# Altium schematic symbol library DSP_AnalogDevices.SchLib: 5 symbols
Pins are listed as number, name and electrical type; pins without a type are passive.

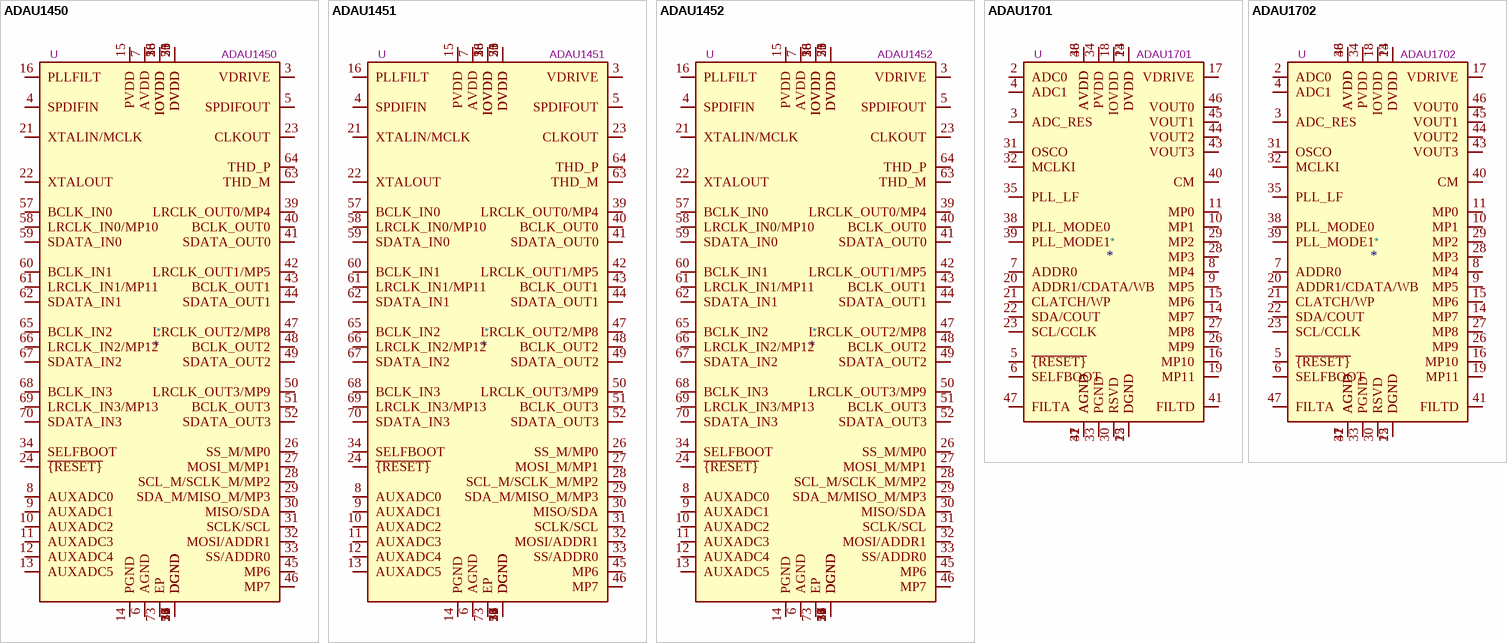
[diagram p0: symbols ADAU1450 to ADAU1702]

## ADAU1450
designator *  value ADAU1450  Reference: U
SigmaDSP SigmaDSP Digital Audio Processor, 147.456 MHz, 8kword Data RAM, I2C/SPI, LFCSP-72; ki_keywords: sigmadsp audio; ki_fp_filters: LFCSP*1EP*10x10mm*P0.5mm*; Footprint: Package_CSP:LFCSP-72-1EP_10x10mm_P0.5mm_EP5.3x5.3mm; Datasheet: https://www.analog.com/media/en/technical-documentation/data-sheets/ADAU1452_1451_1450.pdf; Description_: SigmaDSP SigmaDSP Digital Audio Processor, 147.456 MHz, 8kword Data RAM, I2C/SPI, LFCSP-72
pins: 1 DGND, 2 IOVDD, 3 VDRIVE, 4 SPDIFIN, 5 SPDIFOUT, 6 AGND, 7 AVDD, 8 AUXADC0, 9 AUXADC1, 10 AUXADC2, 11 AUXADC3, 12 AUXADC4, 13 AUXADC5, 14 PGND, 15 PVDD, 16 PLLFILT, 17 DGND, 18 IOVDD, 19 DGND, 20 DVDD, 21 XTALIN/MCLK, 22 XTALOUT, 23 CLKOUT, 24 ~{{RESET}}, 25 DGND, 26 SS_M/MP0, 27 MOSI_M/MP1, 28 SCL_M/SCLK_M/MP2, 29 SDA_M/MISO_M/MP3, 30 MISO/SDA, 31 SCLK/SCL, 32 MOSI/ADDR1, 33 SS/ADDR0, 34 SELFBOOT, 35 DVDD, 36 DGND, 37 DGND, 38 IOVDD, 39 LRCLK_OUT0/MP4, 40 BCLK_OUT0, 41 SDATA_OUT0, 42 LRCLK_OUT1/MP5, 43 BCLK_OUT1, 44 SDATA_OUT1, 45 MP6, 46 MP7, 47 LRCLK_OUT2/MP8, 48 BCLK_OUT2, 49 SDATA_OUT2, 50 LRCLK_OUT3/MP9, 51 BCLK_OUT3, 52 SDATA_OUT3, 53 DVDD, 54 DGND, 55 DGND, 56 IOVDD, 57 BCLK_IN0, 58 LRCLK_IN0/MP10, 59 SDATA_IN0, 60 BCLK_IN1, 61 LRCLK_IN1/MP11, 62 SDATA_IN1, 63 THD_M, 64 THD_P, 65 BCLK_IN2, 66 LRCLK_IN2/MP12, 67 SDATA_IN2, 68 BCLK_IN3, 69 LRCLK_IN3/MP13, 70 SDATA_IN3, 71 DVDD, 72 DGND, 73 EP

## ADAU1451
designator *  value ADAU1451  Reference: U
SigmaDSP SigmaDSP Digital Audio Processor, 294.912 MHz, 40kword Data RAM, I2C/SPI, S/PDIF I/O, 16-Channel ASRC, LFCSP-72; ki_keywords: sigmadsp audio; ki_fp_filters: LFCSP*1EP*10x10mm*P0.5mm*; Footprint: Package_CSP:LFCSP-72-1EP_10x10mm_P0.5mm_EP5.3x5.3mm; Datasheet: https://www.analog.com/media/en/technical-documentation/data-sheets/ADAU1452_1451_1450.pdf; Description_: SigmaDSP SigmaDSP Digital Audio Processor, 294.912 MHz, 40kword Data RAM, I2C/SPI, S/PDIF I/O, 16-Channel ASRC, LFCSP-72
pins: 1 DGND, 2 IOVDD, 3 VDRIVE, 4 SPDIFIN, 5 SPDIFOUT, 6 AGND, 7 AVDD, 8 AUXADC0, 9 AUXADC1, 10 AUXADC2, 11 AUXADC3, 12 AUXADC4, 13 AUXADC5, 14 PGND, 15 PVDD, 16 PLLFILT, 17 DGND, 18 IOVDD, 19 DGND, 20 DVDD, 21 XTALIN/MCLK, 22 XTALOUT, 23 CLKOUT, 24 ~{{RESET}}, 25 DGND, 26 SS_M/MP0, 27 MOSI_M/MP1, 28 SCL_M/SCLK_M/MP2, 29 SDA_M/MISO_M/MP3, 30 MISO/SDA, 31 SCLK/SCL, 32 MOSI/ADDR1, 33 SS/ADDR0, 34 SELFBOOT, 35 DVDD, 36 DGND, 37 DGND, 38 IOVDD, 39 LRCLK_OUT0/MP4, 40 BCLK_OUT0, 41 SDATA_OUT0, 42 LRCLK_OUT1/MP5, 43 BCLK_OUT1, 44 SDATA_OUT1, 45 MP6, 46 MP7, 47 LRCLK_OUT2/MP8, 48 BCLK_OUT2, 49 SDATA_OUT2, 50 LRCLK_OUT3/MP9, 51 BCLK_OUT3, 52 SDATA_OUT3, 53 DVDD, 54 DGND, 55 DGND, 56 IOVDD, 57 BCLK_IN0, 58 LRCLK_IN0/MP10, 59 SDATA_IN0, 60 BCLK_IN1, 61 LRCLK_IN1/MP11, 62 SDATA_IN1, 63 THD_M, 64 THD_P, 65 BCLK_IN2, 66 LRCLK_IN2/MP12, 67 SDATA_IN2, 68 BCLK_IN3, 69 LRCLK_IN3/MP13, 70 SDATA_IN3, 71 DVDD, 72 DGND, 73 EP

## ADAU1452
designator *  value ADAU1452  Reference: U
SigmaDSP SigmaDSP Digital Audio Processor, 294.912 MHz, 40kword Data RAM, I2C/SPI, S/PDIF I/O, 16-Channel ASRC, LFCSP-72; ki_keywords: sigmadsp audio; ki_fp_filters: LFCSP*1EP*10x10mm*P0.5mm*; Footprint: Package_CSP:LFCSP-72-1EP_10x10mm_P0.5mm_EP5.3x5.3mm; Datasheet: https://www.analog.com/media/en/technical-documentation/data-sheets/ADAU1452_1451_1450.pdf; Description_: SigmaDSP SigmaDSP Digital Audio Processor, 294.912 MHz, 40kword Data RAM, I2C/SPI, S/PDIF I/O, 16-Channel ASRC, LFCSP-72
pins: 1 DGND, 2 IOVDD, 3 VDRIVE, 4 SPDIFIN, 5 SPDIFOUT, 6 AGND, 7 AVDD, 8 AUXADC0, 9 AUXADC1, 10 AUXADC2, 11 AUXADC3, 12 AUXADC4, 13 AUXADC5, 14 PGND, 15 PVDD, 16 PLLFILT, 17 DGND, 18 IOVDD, 19 DGND, 20 DVDD, 21 XTALIN/MCLK, 22 XTALOUT, 23 CLKOUT, 24 ~{{RESET}}, 25 DGND, 26 SS_M/MP0, 27 MOSI_M/MP1, 28 SCL_M/SCLK_M/MP2, 29 SDA_M/MISO_M/MP3, 30 MISO/SDA, 31 SCLK/SCL, 32 MOSI/ADDR1, 33 SS/ADDR0, 34 SELFBOOT, 35 DVDD, 36 DGND, 37 DGND, 38 IOVDD, 39 LRCLK_OUT0/MP4, 40 BCLK_OUT0, 41 SDATA_OUT0, 42 LRCLK_OUT1/MP5, 43 BCLK_OUT1, 44 SDATA_OUT1, 45 MP6, 46 MP7, 47 LRCLK_OUT2/MP8, 48 BCLK_OUT2, 49 SDATA_OUT2, 50 LRCLK_OUT3/MP9, 51 BCLK_OUT3, 52 SDATA_OUT3, 53 DVDD, 54 DGND, 55 DGND, 56 IOVDD, 57 BCLK_IN0, 58 LRCLK_IN0/MP10, 59 SDATA_IN0, 60 BCLK_IN1, 61 LRCLK_IN1/MP11, 62 SDATA_IN1, 63 THD_M, 64 THD_P, 65 BCLK_IN2, 66 LRCLK_IN2/MP12, 67 SDATA_IN2, 68 BCLK_IN3, 69 LRCLK_IN3/MP13, 70 SDATA_IN3, 71 DVDD, 72 DGND, 73 EP

## ADAU1701
designator *  value ADAU1701  Reference: U
SigmaDSP 28-/56-Bit Audio Processor with Two ADCs and Four DACs, 50 MIPS, 1kword Program RAM, 2kword Data RAM, LQFP-48; ki_keywords: sigmadsp audio adc dac; ki_fp_filters: LQFP*7x7mm*P0.5mm*; Footprint: Package_QFP:LQFP-48_7x7mm_P0.5mm; Datasheet: https://www.analog.com/media/en/technical-documentation/data-sheets/ADAU1701.pdf; Description_: SigmaDSP 28-/56-Bit Audio Processor with Two ADCs and Four DACs, 50 MIPS, 1kword Program RAM, 2kword Data RAM, LQFP-48
pins: 1 AGND, 2 ADC0, 3 ADC_RES, 4 ADC1, 5 ~{{RESET}}, 6 SELFBOOT, 7 ADDR0, 8 MP4, 9 MP5, 10 MP1, 11 MP0, 12 DGND, 13 DVDD, 14 MP7, 15 MP6, 16 MP10, 17 VDRIVE, 18 IOVDD, 19 MP11, 20 ADDR1/CDATA/WB, 21 CLATCH/WP, 22 SDA/COUT, 23 SCL/CCLK, 24 DVDD, 25 DGND, 26 MP9, 27 MP8, 28 MP3, 29 MP2, 30 RSVD, 31 OSCO, 32 MCLKI, 33 PGND, 34 PVDD, 35 PLL_LF, 36 AVDD, 37 AGND, 38 PLL_MODE0, 39 PLL_MODE1, 40 CM, 41 FILTD, 42 AGND, 43 VOUT3, 44 VOUT2, 45 VOUT1, 46 VOUT0, 47 FILTA, 48 AVDD

## ADAU1702
designator *  value ADAU1702  Reference: U
SigmaDSP 28-/56-Bit Audio Processor with Two ADCs and Four DACs, 25 MIPS, 512kword Program RAM, 512kword Data RAM, LQFP-48; ki_keywords: sigmadsp audio adc dac; ki_fp_filters: LQFP*7x7mm*P0.5mm*; Footprint: Package_QFP:LQFP-48_7x7mm_P0.5mm; Datasheet: https://www.analog.com/media/en/technical-documentation/data-sheets/ADAU1702.pdf; Description_: SigmaDSP 28-/56-Bit Audio Processor with Two ADCs and Four DACs, 25 MIPS, 512kword Program RAM, 512kword Data RAM, LQFP-48
pins: 1 AGND, 2 ADC0, 3 ADC_RES, 4 ADC1, 5 ~{{RESET}}, 6 SELFBOOT, 7 ADDR0, 8 MP4, 9 MP5, 10 MP1, 11 MP0, 12 DGND, 13 DVDD, 14 MP7, 15 MP6, 16 MP10, 17 VDRIVE, 18 IOVDD, 19 MP11, 20 ADDR1/CDATA/WB, 21 CLATCH/WP, 22 SDA/COUT, 23 SCL/CCLK, 24 DVDD, 25 DGND, 26 MP9, 27 MP8, 28 MP3, 29 MP2, 30 RSVD, 31 OSCO, 32 MCLKI, 33 PGND, 34 PVDD, 35 PLL_LF, 36 AVDD, 37 AGND, 38 PLL_MODE0, 39 PLL_MODE1, 40 CM, 41 FILTD, 42 AGND, 43 VOUT3, 44 VOUT2, 45 VOUT1, 46 VOUT0, 47 FILTA, 48 AVDD